# Altium integrated library MSP430FR2311IPW16.IntLib: 1 symbol
Pins are listed as number, name and electrical type; pins without a type are passive.

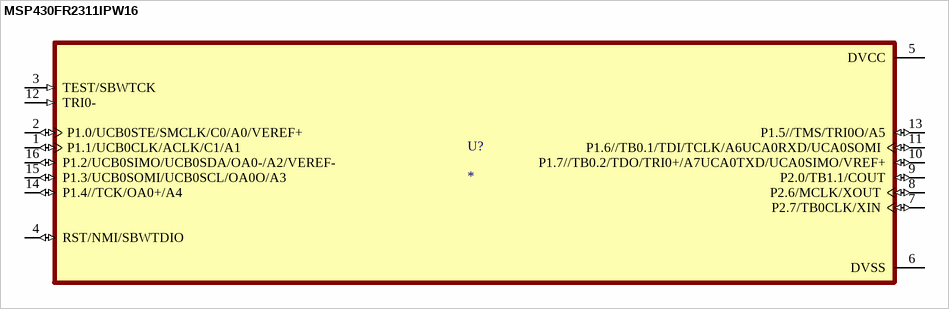
[diagram p0: symbol MSP430FR2311IPW16]

## MSP430FR2311IPW16
designator U?
16MHz integrated analog microcontroller with 3.75KB FRAM, Op-Amp, TIA, Comparator w/ DAC, 10-bit ADC 16-TSSOP -40 to 85; MP: MSP430FR2311IPW16; MF: Texas Instruments; SnapEDA_Link: https://www.snapeda.com/parts/MSP430FR2311IPW16/Texas+Instruments/view-part/?ref=snap; Availability: In Stock; Package: TSSOP-16 Texas Instruments; Check_prices: https://www.snapeda.com/parts/MSP430FR2311IPW16/Texas+Instruments/view-part/?ref=eda; Price: None; Purchase-URL: https://pricing.snapeda.com/search/part/MSP430FR2311IPW16/?ref=eda; Value: *
footprint SOP65P640X120-16N
pins: 1 P1.1/UCB0CLK/ACLK/C1/A1 (io), 2 P1.0/UCB0STE/SMCLK/C0/A0/VEREF+ (io), 3 TEST/SBWTCK (in), 4 RST/NMI/SBWTDIO (io), 5 DVCC (power), 6 DVSS (power), 7 P2.7/TB0CLK/XIN (io), 8 P2.6/MCLK/XOUT (io), 9 P2.0/TB1.1/COUT (io), 10 P1.7//TB0.2/TDO/TRI0+/A7UCA0TXD/UCA0SIMO/VREF+ (io), 11 P1.6//TB0.1/TDI/TCLK/A6UCA0RXD/UCA0SOMI (io), 12 TRI0- (in), 13 P1.5//TMS/TRI0O/A5 (io), 14 P1.4//TCK/OA0+/A4 (io), 15 P1.3/UCB0SOMI/UCB0SCL/OA0O/A3 (io), 16 P1.2/UCB0SIMO/UCB0SDA/OA0-/A2/VEREF- (io)